# Altium schematic symbol library IRFR9220TRPBF-BE3.SchLib: 1 symbol
Pins are listed as number, name and electrical type; pins without a type are passive.

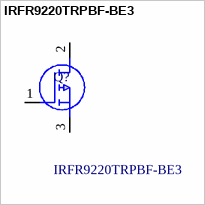
[diagram p0: symbol IRFR9220TRPBF-BE3]

## IRFR9220TRPBF-BE3
designator Q?
MOSFET 200V P-CH MOSFET (D- S); Manufacturer_Name: Vishay; Geometry.Height: 2.507mm; Mouser Part Number: 78-IRFR9220TRPBF-BE3; Mouser Price/Stock: https://www.mouser.co.uk/ProductDetail/Vishay-Siliconix/IRFR9220TRPBF-BE3?qs=7MVldsJ5Uayk8Succj4uGA%3D%3D; Manufacturer_Part_Number: IRFR9220TRPBF-BE3; Datasheet Link: https://www.vishay.com/docs/91283/sihfr922.pdf
footprint IRFR9220TRPBFBE3
pins: 1 G, 2 D, 3 S